# Altium footprint library hedb.PcbLib: 17 footprints (part 1 of 2)
Each footprint in its own frame and in the unit in brackets; x right, y up, seen from the top. Pads: shape width x height; smd on the part's side, far side on the other; paste and mask are expansions set on the pad; w line width, h text height; cw(c..) or ccw(c..) is an arc to the next point about the centre after c.
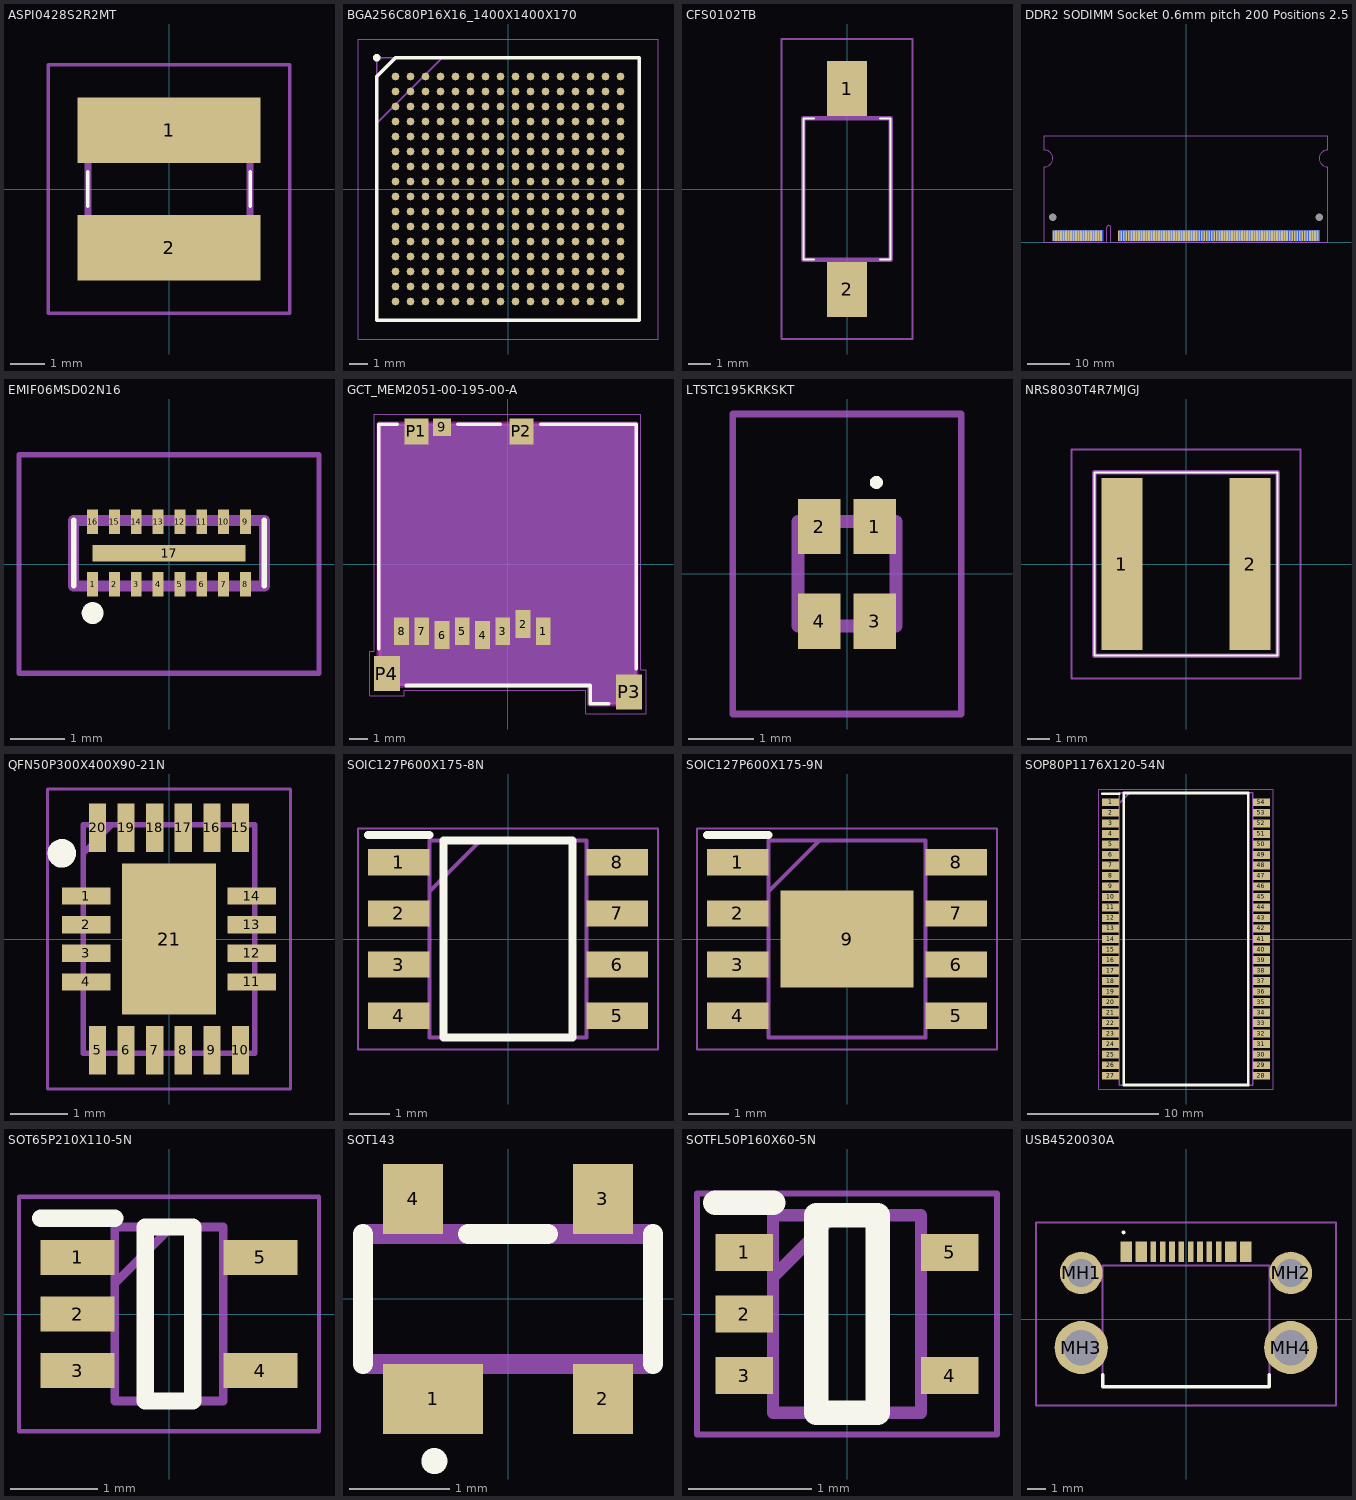
[diagram p0: the footprints below, top view; thin cyan lines are the x and y axes]

## ASPI0428S2R2MT [mm]
pads (2):
  rect 5.3x1.9 smd: 1(0,1.7) 2(0,-1.7)
Top Overlay:
  lines w0.1: -2.35,-0.5 -2.35,0.5 ; 2.35,-0.5 2.35,0.5
Mechanical 13:
  lines w0.2: -2.35,-2.35 -2.35,2.35 2.35,2.35 2.35,-2.35 -2.35,-2.35
Mechanical 15:
  lines w0.1: -3.5,-3.6 -3.5,3.6 3.5,3.6 3.5,-3.6 -3.5,-3.6

## BGA256C80P16X16_1400X1400X170 [mm]
pads (256):
  round 0.41 smd: A1(-6,6) A2(-5.2,6) A3(-4.4,6) A4(-3.6,6) A5(-2.8,6) A6(-2,6) A7(-1.2,6) A8(-0.4,6) A9(0.4,6) A10(1.2,6) A11(2,6) A12(2.8,6) A13(3.6,6) A14(4.4,6) A15(5.2,6) A16(6,6) B1(-6,5.2) B2(-5.2,5.2) B3(-4.4,5.2) B4(-3.6,5.2) B5(-2.8,5.2) B6(-2,5.2) B7(-1.2,5.2) B8(-0.4,5.2) B9(0.4,5.2) B10(1.2,5.2) B11(2,5.2) B12(2.8,5.2) B13(3.6,5.2) B14(4.4,5.2) B15(5.2,5.2) B16(6,5.2) C1(-6,4.4) C2(-5.2,4.4) C3(-4.4,4.4) C4(-3.6,4.4) C5(-2.8,4.4) C6(-2,4.4) C7(-1.2,4.4) C8(-0.4,4.4) C9(0.4,4.4) C10(1.2,4.4) C11(2,4.4) C12(2.8,4.4) C13(3.6,4.4) C14(4.4,4.4) C15(5.2,4.4) C16(6,4.4) D1(-6,3.6) D2(-5.2,3.6) D3(-4.4,3.6) D4(-3.6,3.6) D5(-2.8,3.6) D6(-2,3.6) D7(-1.2,3.6) D8(-0.4,3.6) D9(0.4,3.6) D10(1.2,3.6) D11(2,3.6) D12(2.8,3.6) D13(3.6,3.6) D14(4.4,3.6) D15(5.2,3.6) D16(6,3.6) E1(-6,2.8) E2(-5.2,2.8) E3(-4.4,2.8) E4(-3.6,2.8) E5(-2.8,2.8) E6(-2,2.8) E7(-1.2,2.8) E8(-0.4,2.8) E9(0.4,2.8) E10(1.2,2.8) E11(2,2.8) E12(2.8,2.8) E13(3.6,2.8) E14(4.4,2.8) E15(5.2,2.8) E16(6,2.8) F1(-6,2) F2(-5.2,2) F3(-4.4,2) F4(-3.6,2) F5(-2.8,2) F6(-2,2) F7(-1.2,2) F8(-0.4,2) F9(0.4,2) F10(1.2,2) F11(2,2) F12(2.8,2) F13(3.6,2) F14(4.4,2) F15(5.2,2) F16(6,2) G1(-6,1.2) G2(-5.2,1.2) G3(-4.4,1.2) G4(-3.6,1.2) G5(-2.8,1.2) G6(-2,1.2) G7(-1.2,1.2) G8(-0.4,1.2) G9(0.4,1.2) G10(1.2,1.2) G11(2,1.2) G12(2.8,1.2) G13(3.6,1.2) G14(4.4,1.2) G15(5.2,1.2) G16(6,1.2) H1(-6,0.4) H2(-5.2,0.4) H3(-4.4,0.4) H4(-3.6,0.4) H5(-2.8,0.4) H6(-2,0.4) H7(-1.2,0.4) H8(-0.4,0.4) H9(0.4,0.4) H10(1.2,0.4) H11(2,0.4) H12(2.8,0.4) H13(3.6,0.4) H14(4.4,0.4) H15(5.2,0.4) H16(6,0.4) J1(-6,-0.4) J2(-5.2,-0.4) J3(-4.4,-0.4) J4(-3.6,-0.4) J5(-2.8,-0.4) J6(-2,-0.4) J7(-1.2,-0.4) J8(-0.4,-0.4) J9(0.4,-0.4) J10(1.2,-0.4) J11(2,-0.4) J12(2.8,-0.4) J13(3.6,-0.4) J14(4.4,-0.4) J15(5.2,-0.4) J16(6,-0.4) K1(-6,-1.2) K2(-5.2,-1.2) K3(-4.4,-1.2) K4(-3.6,-1.2) K5(-2.8,-1.2) K6(-2,-1.2) K7(-1.2,-1.2) K8(-0.4,-1.2) K9(0.4,-1.2) K10(1.2,-1.2) K11(2,-1.2) K12(2.8,-1.2) K13(3.6,-1.2) K14(4.4,-1.2) K15(5.2,-1.2) K16(6,-1.2) L1(-6,-2) L2(-5.2,-2) L3(-4.4,-2) L4(-3.6,-2) L5(-2.8,-2) L6(-2,-2) L7(-1.2,-2) L8(-0.4,-2) L9(0.4,-2) L10(1.2,-2) L11(2,-2) L12(2.8,-2) L13(3.6,-2) L14(4.4,-2) L15(5.2,-2) L16(6,-2) M1(-6,-2.8) M2(-5.2,-2.8) M3(-4.4,-2.8) M4(-3.6,-2.8) M5(-2.8,-2.8) M6(-2,-2.8) M7(-1.2,-2.8) M8(-0.4,-2.8) M9(0.4,-2.8) M10(1.2,-2.8) M11(2,-2.8) M12(2.8,-2.8) M13(3.6,-2.8) M14(4.4,-2.8) M15(5.2,-2.8) M16(6,-2.8) N1(-6,-3.6) N2(-5.2,-3.6) N3(-4.4,-3.6) N4(-3.6,-3.6) N5(-2.8,-3.6) N6(-2,-3.6) N7(-1.2,-3.6) N8(-0.4,-3.6) N9(0.4,-3.6) N10(1.2,-3.6) N11(2,-3.6) N12(2.8,-3.6) N13(3.6,-3.6) N14(4.4,-3.6) N15(5.2,-3.6) N16(6,-3.6) P1(-6,-4.4) P2(-5.2,-4.4) P3(-4.4,-4.4) P4(-3.6,-4.4) P5(-2.8,-4.4) P6(-2,-4.4) P7(-1.2,-4.4) P8(-0.4,-4.4) P9(0.4,-4.4) P10(1.2,-4.4) P11(2,-4.4) P12(2.8,-4.4) P13(3.6,-4.4) P14(4.4,-4.4) P15(5.2,-4.4) P16(6,-4.4) R1(-6,-5.2) R2(-5.2,-5.2) R3(-4.4,-5.2) R4(-3.6,-5.2) R5(-2.8,-5.2) R6(-2,-5.2) R7(-1.2,-5.2) R8(-0.4,-5.2) R9(0.4,-5.2) R10(1.2,-5.2) R11(2,-5.2) R12(2.8,-5.2) R13(3.6,-5.2) R14(4.4,-5.2) R15(5.2,-5.2) R16(6,-5.2) T1(-6,-6) T2(-5.2,-6) T3(-4.4,-6) T4(-3.6,-6) T5(-2.8,-6) T6(-2,-6) T7(-1.2,-6) T8(-0.4,-6) T9(0.4,-6) T10(1.2,-6) T11(2,-6) T12(2.8,-6) T13(3.6,-6) T14(4.4,-6) T15(5.2,-6) T16(6,-6)
Top Overlay:
  circle w0.2: c-7,7 r0.1
  lines w0.2: -7,-7 7,-7 7,7 -6,7 -7,6 -7,-7
Mechanical 13:
  lines w0.1: -7,3.5 -3.5,7 ; -7,-7 7,-7 7,7 -7,7 -7,-7
Mechanical 15:
  lines w0.05: -8,-8 8,-8 8,8 -8,8 -8,-8
3D body "LFE5U-25F-6BG256C.stp": height 1.7, standoff 0, extent -7,-7 7,7

## CFS0102TB [mm]
pads (2):
  rect 1.8x2.5 smd: 1(0,4.55) 2(0,-4.55)
Top Overlay:
  lines w0.1: -1.5,-3.2 -1.975,-3.2 -1.975,3.2 -1.5,3.2 ; 1.5,-3.2 1.975,-3.2 1.975,3.2 1.5,3.2
Mechanical 13:
  lines w0.2: -1.975,-3.2 1.975,-3.2 1.975,3.2 -1.975,3.2 -1.975,-3.2
Mechanical 15:
  lines w0.1: -2.975,-6.8 2.975,-6.8 2.975,6.8 -2.975,6.8 -2.975,-6.8

## DDR2 SODIMM Socket 0.6mm pitch 200 Positions 2.5V [mm] "DDR2 SODIMM Socket 0.6mm pitch 200 Positions 2.5V"
height 1
pads (206):
  round 0 hole 1.8 unplated: 0(-31.8,6) 0(31.8,6)
  rect 0.45x2.55 smd paste-2.55 mask+0.05: 1(-31.65,1.525) 3(-31.05,1.525) 5(-30.45,1.525) 7(-29.85,1.525) 9(-29.25,1.525) 11(-28.65,1.525) 13(-28.05,1.525) 15(-27.45,1.525) 17(-26.85,1.525) 19(-26.25,1.525) 21(-25.65,1.525) 23(-25.05,1.525) 25(-24.45,1.525) 27(-23.85,1.525) 29(-23.25,1.525) 31(-22.65,1.525) 33(-22.05,1.525) 35(-21.45,1.525) 37(-20.85,1.525) 39(-20.25,1.525) 39(-20.25,1.525) 41(-16.05,1.525) 41(-16.05,1.525) 43(-15.45,1.525) 45(-14.85,1.525) 47(-14.25,1.525) 49(-13.65,1.525) 51(-13.05,1.525) 53(-12.45,1.525) 55(-11.85,1.525) 57(-11.25,1.525) 59(-10.65,1.525) 61(-10.05,1.525) 63(-9.45,1.525) 65(-8.85,1.525) 67(-8.25,1.525) 69(-7.65,1.525) 71(-7.05,1.525) 73(-6.45,1.525) 75(-5.85,1.525) 77(-5.25,1.525) 79(-4.65,1.525) 81(-4.05,1.525) 83(-3.45,1.525) 85(-2.85,1.525) 87(-2.25,1.525) 89(-1.65,1.525) 91(-1.05,1.525) 93(-0.45,1.525) 95(0.15,1.525) 97(0.75,1.525) 99(1.35,1.525) 101(1.95,1.525) 103(2.55,1.525) 105(3.15,1.525) 107(3.75,1.525) 109(4.35,1.525) 111(4.95,1.525) 113(5.55,1.525) 115(6.15,1.525) 117(6.75,1.525) 119(7.35,1.525) 121(7.95,1.525) 123(8.55,1.525) 125(9.15,1.525) 127(9.75,1.525) 129(10.35,1.525) 131(10.95,1.525) 133(11.55,1.525) 135(12.15,1.525) 137(12.75,1.525) 137(12.75,1.525) 139(13.35,1.525) 141(13.95,1.525) 143(14.55,1.525) 145(15.15,1.525) 147(15.75,1.525) 149(16.35,1.525) 151(16.95,1.525) 153(17.55,1.525) 155(18.15,1.525) 157(18.75,1.525) 159(19.35,1.525) 161(19.95,1.525) 163(20.55,1.525) 165(21.15,1.525) 167(21.75,1.525) 169(22.35,1.525) 171(22.95,1.525) 173(23.55,1.525) 175(24.15,1.525) 177(24.75,1.525) 179(25.35,1.525) 181(25.95,1.525) 183(26.55,1.525) 185(27.15,1.525) 187(27.75,1.525) 189(28.35,1.525) 191(28.95,1.525) 193(29.55,1.525) 195(30.15,1.525) 197(30.75,1.525) 199(31.35,1.525)
  rect 0.45x2.55 smd far side paste-2.55 mask+0.05: 2(-31.35,1.525) 4(-30.75,1.525) 6(-30.15,1.525) 8(-29.55,1.525) 10(-28.95,1.525) 12(-28.35,1.525) 14(-27.75,1.525) 16(-27.15,1.525) 18(-26.55,1.525) 20(-25.95,1.525) 22(-25.35,1.525) 24(-24.75,1.525) 26(-24.15,1.525) 28(-23.55,1.525) 30(-22.95,1.525) 32(-22.35,1.525) 34(-21.75,1.525) 36(-21.15,1.525) 38(-20.55,1.525) 40(-19.95,1.525) 42(-15.75,1.525) 42(-15.75,1.525) 44(-15.15,1.525) 46(-14.55,1.525) 48(-13.95,1.525) 50(-13.35,1.525) 52(-12.75,1.525) 54(-12.15,1.525) 56(-11.55,1.525) 58(-10.95,1.525) 60(-10.35,1.525) 62(-9.75,1.525) 64(-9.15,1.525) 66(-8.55,1.525) 68(-7.95,1.525) 70(-7.35,1.525) 72(-6.75,1.525) 74(-6.15,1.525) 76(-5.55,1.525) 78(-4.95,1.525) 80(-4.35,1.525) 82(-3.75,1.525) 84(-3.15,1.525) 86(-2.55,1.525) 88(-1.95,1.525) 90(-1.35,1.525) 92(-0.75,1.525) 94(-0.15,1.525) 96(0.45,1.525) 98(1.05,1.525) 100(1.65,1.525) 102(2.25,1.525) 104(2.85,1.525) 106(3.45,1.525) 108(4.05,1.525) 110(4.65,1.525) 112(5.25,1.525) 114(5.85,1.525) 116(6.45,1.525) 118(7.05,1.525) 120(7.65,1.525) 122(8.25,1.525) 124(8.85,1.525) 126(9.45,1.525) 128(10.05,1.525) 130(10.65,1.525) 132(11.25,1.525) 134(11.85,1.525) 136(12.45,1.525) 138(13.05,1.525) 140(13.65,1.525) 142(14.25,1.525) 144(14.85,1.525) 146(15.45,1.525) 148(16.05,1.525) 150(16.65,1.525) 152(17.25,1.525) 154(17.85,1.525) 156(18.45,1.525) 158(19.05,1.525) 160(19.65,1.525) 162(20.25,1.525) 164(20.85,1.525) 166(21.45,1.525) 168(22.05,1.525) 170(22.65,1.525) 172(23.25,1.525) 174(23.85,1.525) 176(24.45,1.525) 178(25.05,1.525) 180(25.65,1.525) 182(26.25,1.525) 184(26.85,1.525) 186(27.45,1.525) 188(28.05,1.525) 190(28.65,1.525) 192(29.25,1.525) 194(29.85,1.525) 196(30.45,1.525) 198(31.05,1.525) 200(31.65,1.525)
Mechanical 1:
  lines w0.15: -33.8,18 -33.8,0 -18.95,0 -18.95,3.5 ; -33.8,22 -33.8,25.4 33.8,25.4 33.8,22 ; -17.95,3.5 -17.95,0 33.8,0 33.8,18
Mechanical 13:
  lines w0.15: -33.8,18 ccw(c-33.8,20) -33.8,22 ; -18.95,3.5 cw(c-18.45,3.5) -17.95,3.5 ; 33.8,18 cw(c33.8,20) 33.8,22

## EMIF06MSD02N16 [mm]
pads (17):
  rect 0.2x0.45 smd: 1(-1.4,-0.375) 2(-1,-0.375) 3(-0.6,-0.375) 4(-0.2,-0.375) 5(0.2,-0.375) 6(0.6,-0.375) 7(1,-0.375) 8(1.4,-0.375) 9(1.4,0.775) 10(1,0.775) 11(0.6,0.775) 12(0.2,0.775) 13(-0.2,0.775) 14(-0.6,0.775) 15(-1,0.775) 16(-1.4,0.775)
  rect 2.8x0.3 smd: 17(0,0.2)
Top Overlay:
  lines w0.1: -1.75,-0.4 -1.75,0.8 ; 1.75,-0.4 1.75,0.8
  lines w0.2: -1.5,-0.9 ccw(c-1.4,-0.9) -1.3,-0.9 ccw(c-1.4,-0.9) -1.5,-0.9
Mechanical 13:
  lines w0.2: -1.75,-0.4 -1.75,0.8 1.75,0.8 1.75,-0.4 -1.75,-0.4
Mechanical 15:
  lines w0.1: -2.75,-2 -2.75,2 2.75,2 2.75,-2 -2.75,-2
3D body "EMIF06-MSD02N16.stp": height 0.55, standoff 0, extent -1.75,-0.41 1.75,0.79

## GCT_MEM2051-00-195-00-A [mm]
pads (13):
  rect 0.8x1.5 smd: 1(1.94,-3.66) 2(0.84,-3.26) 3(-0.26,-3.66) 4(-1.36,-3.86) 5(-2.46,-3.66) 6(-3.56,-3.86) 7(-4.66,-3.66) 8(-5.76,-3.66)
  rect 1x0.95 smd: 9(-3.56,7.425)
  rect 1.3x1.4 smd: P1(-4.95,7.2) P2(0.75,7.2)
  rect 1.4x1.9 smd: P3(6.6,-6.95) P4(-6.55,-5.95)
Top Overlay:
  lines w0.2: -7,-4.6 -7,7.6 -6,7.6 ; -5.5,-6.6 4.5,-6.6 4.5,-7.6 5.5,-7.6 ; -2.7,7.6 -0.4,7.6 ; 1.8,7.6 7,7.6 7,-5.7
Keep-Out Layer:
  lines w0.254: -6.985,-6.604 -6.985,7.62 6.985,7.62 6.985,-7.62 4.445,-7.62 4.445,-6.604 -6.985,-6.604
Mechanical 1:
  pour cut-out: -6.985,-6.604 -6.985,7.62 6.985,7.62 6.985,-7.62 4.445,-7.62 4.445,-6.604
Mechanical 15:
  lines w0.05: -7.5,-7.15 -5.6,-7.15 -5.6,-6.85 4.25,-6.85 4.25,-8.15 7.55,-8.15 7.55,-5.75 7.25,-5.75 7.25,8.15 -7.25,8.15 -7.25,-4.75 -7.5,-4.75 -7.5,-7.15
3D body "Micro SD Card.STEP": height 2, standoff 1, extent -6.268,-11.268 4.744,3.732
3D body "MEM2051-00-195-00-A--3DModel-STEP-1.STEP": height 1.95, standoff 0, extent -7.05,-7.727 7.05,7.573

## LTSTC195KRKSKT [mm]
pads (4):
  rect 0.65x0.85 smd: 1(0.425,0.725) 2(-0.425,0.725) 3(0.425,-0.725) 4(-0.425,-0.725)
Top Overlay:
  lines w0.1: 0.4,1.4 cw(c0.45,1.4) 0.5,1.4 cw(c0.45,1.4) 0.4,1.4
Mechanical 13:
  lines w0.2: -0.75,-0.8 -0.75,0.8 0.75,0.8 0.75,-0.8 -0.75,-0.8
Mechanical 15:
  lines w0.1: -1.75,-2.15 -1.75,2.45 1.75,2.45 1.75,-2.15 -1.75,-2.15
3D body "LTST-C195KRKSKT.stp": height 0.65, standoff 0, extent -0.75,-0.8 0.75,0.8

## NRS8030T4R7MJGJ [mm]
pads (2):
  rect 1.8x7.5 smd: 1(-2.8,0) 2(2.8,0)
Top Overlay:
  lines w0.1: -4,-4 4,-4 4,4 -4,4 -4,-4
Mechanical 13:
  lines w0.2: -4,-4 4,-4 4,4 -4,4 -4,-4
Mechanical 15:
  lines w0.1: -5,-5 5,-5 5,5 -5,5 -5,-5
3D body "NRS8030T2R2NJGJ.stp": height 3.1, standoff 0, extent -4,-4 4,4

## QFN50P300X400X90-21N [mm]
pads (21):
  rect 0.85x0.3 smd: 1(-1.45,0.75) 2(-1.45,0.25) 3(-1.45,-0.25) 4(-1.45,-0.75) 11(1.45,-0.75) 12(1.45,-0.25) 13(1.45,0.25) 14(1.45,0.75)
  rect 0.3x0.85 smd: 5(-1.25,-1.95) 6(-0.75,-1.95) 7(-0.25,-1.95) 8(0.25,-1.95) 9(0.75,-1.95) 10(1.25,-1.95) 15(1.25,1.95) 16(0.75,1.95) 17(0.25,1.95) 18(-0.25,1.95) 19(-0.75,1.95) 20(-1.25,1.95)
  rect 1.65x2.65 smd: 21(0,0)
Top Overlay:
  circle w0.25: c-1.875,1.5 r0.125
Mechanical 13:
  lines w0.1: -1.5,1.5 -1,2 ; -1.5,-2 1.5,-2 1.5,2 -1.5,2 -1.5,-2
Mechanical 15:
  lines w0.05: -2.125,-2.625 2.125,-2.625 2.125,2.625 -2.125,2.625 -2.125,-2.625
3D body "MIC23158YML-T5.stp": height 0.9, standoff 0, extent -1.55,-2.05 1.55,2.05

## SOIC127P600X175-8N [mm]
pads (8):
  rect 1.525x0.65 smd: 1(-2.712,1.905) 2(-2.712,0.635) 3(-2.712,-0.635) 4(-2.712,-1.905) 5(2.712,-1.905) 6(2.712,-0.635) 7(2.712,0.635) 8(2.712,1.905)
Top Overlay:
  lines w0.2: -3.475,2.58 -1.95,2.58 ; -1.6,-2.45 -1.6,2.45 1.6,2.45 1.6,-2.45 -1.6,-2.45
Mechanical 13:
  lines w0.1: -1.95,1.18 -0.68,2.45 ; -1.95,-2.45 -1.95,2.45 1.95,2.45 1.95,-2.45 -1.95,-2.45
Mechanical 15:
  lines w0.05: -3.725,-2.75 -3.725,2.75 3.725,2.75 3.725,-2.75 -3.725,-2.75
3D body "NE555DR.stp": height 1.75, standoff 0, extent -3,-2.45 3,2.45

## SOIC127P600X175-9N [mm]
pads (9):
  rect 1.525x0.65 smd: 1(-2.712,1.905) 2(-2.712,0.635) 3(-2.712,-0.635) 4(-2.712,-1.905) 5(2.712,-1.905) 6(2.712,-0.635) 7(2.712,0.635) 8(2.712,1.905)
  rect 3.3x2.41 smd: 9(0,0)
Top Overlay:
  lines w0.2: -3.475,2.58 -1.95,2.58
Mechanical 13:
  lines w0.1: -1.95,1.18 -0.68,2.45 ; -1.95,-2.45 1.95,-2.45 1.95,2.45 -1.95,2.45 -1.95,-2.45
Mechanical 15:
  lines w0.05: -3.725,-2.75 3.725,-2.75 3.725,2.75 -3.725,2.75 -3.725,-2.75
3D body "PAM2320BECADJR.stp": height 1.75, standoff 0, extent -3,-2.45 3,2.45

## SOP80P1176X120-54N [mm]
pads (54):
  rect 1.295x0.6 smd: 1(-5.728,10.4) 2(-5.728,9.6) 3(-5.728,8.8) 4(-5.728,8) 5(-5.728,7.2) 6(-5.728,6.4) 7(-5.728,5.6) 8(-5.728,4.8) 9(-5.728,4) 10(-5.728,3.2) 11(-5.728,2.4) 12(-5.728,1.6) 13(-5.728,0.8) 14(-5.728,0) 15(-5.728,-0.8) 16(-5.728,-1.6) 17(-5.728,-2.4) 18(-5.728,-3.2) 19(-5.728,-4) 20(-5.728,-4.8) 21(-5.728,-5.6) 22(-5.728,-6.4) 23(-5.728,-7.2) 24(-5.728,-8) 25(-5.728,-8.8) 26(-5.728,-9.6) 27(-5.728,-10.4) 28(5.728,-10.4) 29(5.728,-9.6) 30(5.728,-8.8) 31(5.728,-8) 32(5.728,-7.2) 33(5.728,-6.4) 34(5.728,-5.6) 35(5.728,-4.8) 36(5.728,-4) 37(5.728,-3.2) 38(5.728,-2.4) 39(5.728,-1.6) 40(5.728,-0.8) 41(5.728,0) 42(5.728,0.8) 43(5.728,1.6) 44(5.728,2.4) 45(5.728,3.2) 46(5.728,4) 47(5.728,4.8) 48(5.728,5.6) 49(5.728,6.4) 50(5.728,7.2) 51(5.728,8) 52(5.728,8.8) 53(5.728,9.6) 54(5.728,10.4)
Top Overlay:
  lines w0.2: -6.375,11.05 -5.08,11.05 ; -4.73,-11.11 -4.73,11.11 4.73,11.11 4.73,-11.11 -4.73,-11.11
Mechanical 13:
  lines w0.1: -5.08,10.31 -4.28,11.11 ; -5.08,-11.11 -5.08,11.11 5.08,11.11 5.08,-11.11 -5.08,-11.11
Mechanical 15:
  lines w0.05: -6.625,-11.41 -6.625,11.41 6.625,11.41 6.625,-11.41 -6.625,-11.41
3D body "A3V56S40GTP-60I.stp": height 1.2, standoff 0, extent -5.88,-11.11 5.88,11.11

## SOT65P210X110-5N [mm]
pads (5):
  rect 0.85x0.4 smd: 1(-1.05,0.65) 2(-1.05,0) 3(-1.05,-0.65) 4(1.05,-0.65) 5(1.05,0.65)
Top Overlay:
  lines w0.2: -1.475,1.1 -0.625,1.1 ; -0.275,-1 -0.275,1 0.275,1 0.275,-1 -0.275,-1
Mechanical 13:
  lines w0.1: -0.625,0.35 0.025,1 ; -0.625,-1 -0.625,1 0.625,1 0.625,-1 -0.625,-1
Mechanical 15:
  lines w0.05: -1.725,-1.35 -1.725,1.35 1.725,1.35 1.725,-1.35 -1.725,-1.35
3D body "NCP512SQ25T2G.stp": height 1.1, standoff 0, extent -1.05,-1 1.05,1

## SOT143 [mm]
pads (4):
  rect 1x0.7 smd: 1(-0.75,-1)
  rect 0.6x0.7 smd: 2(0.95,-1) 3(0.95,1) 4(-0.95,1)
Top Overlay:
  circle w0.2: c-0.737,-1.622 r0.03
  lines w0.2: -1.45,-0.65 -1.45,0.65 ; -0.4,0.65 0.4,0.65 ; 1.45,-0.65 1.45,0.65
Mechanical 13:
  lines w0.2: -1.45,-0.65 1.45,-0.65 1.45,0.65 -1.45,0.65 -1.45,-0.65

## SOTFL50P160X60-5N [mm]
pads (5):
  rect 0.465x0.3 smd: 1(-0.832,0.5) 2(-0.832,0) 3(-0.832,-0.5) 4(0.832,-0.5) 5(0.832,0.5)
Top Overlay:
  lines w0.2: -1.065,0.9 -0.6,0.9 ; -0.25,-0.8 -0.25,0.8 0.25,0.8 0.25,-0.8 -0.25,-0.8
Mechanical 13:
  lines w0.1: -0.6,0.3 -0.1,0.8 ; -0.6,-0.8 -0.6,0.8 0.6,0.8 0.6,-0.8 -0.6,-0.8
Mechanical 15:
  lines w0.05: -1.215,-0.975 -1.215,0.975 1.215,0.975 1.215,-0.975 -1.215,-0.975
3D body "TCR2EE10,LM_CT.stp": height 0.6, standoff 0, extent -0.8,-0.8 0.8,0.8

## USB4520030A [mm]
pads (20):
  rect 0.3x1.1 smd: A1(-3.35,3.625) A4(-2.55,3.625) A5(-1.25,3.625) A6(-0.25,3.625) A7(0.25,3.625) A8(1.25,3.625) A9(2.55,3.625) A12(3.35,3.625) B1(3.05,3.625) B4(2.25,3.625) B5(1.75,3.625) B6(0.75,3.625) B7(-0.75,3.625) B8(-1.75,3.625) B9(-2.25,3.625) B12(-3.05,3.625)
  round 2.28 hole 1.52: MH1(-5.62,2.475) MH2(5.62,2.475)
  round 2.85 hole 1.9: MH3(-5.62,-1.525) MH4(5.62,-1.525)
Top Overlay:
  lines w0.1: -3.35,4.6 cw(c-3.35,4.65) -3.35,4.7 cw(c-3.35,4.65) -3.35,4.6
  lines w0.2: -4.47,-3 -4.47,-3.625 4.47,-3.625 4.47,-3
Mechanical 13:
  lines w0.1: -4.47,-3.625 -4.47,2.875 4.47,2.875 4.47,-3.625 -4.47,-3.625
Mechanical 15:
  lines w0.1: -8.045,-4.625 -8.045,5.175 8.045,5.175 8.045,-4.625 -8.045,-4.625